# EAGLE library part DS3231 (library nixie_tube)
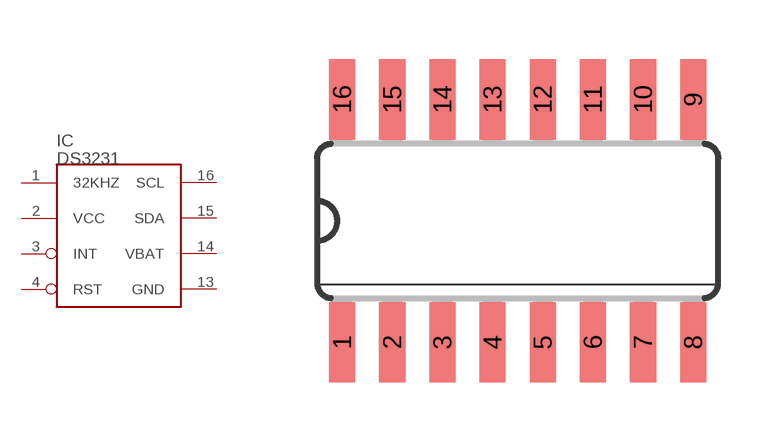
[diagram p8: symbol with the pads of SO16; footprint SO16]

Designator prefix IC

## DS3231  [SO16]
1  32KHZ  out
2  VCC  in
3  INT
4  RST
13  GND
14  VBAT
15  SDA
16  SCL

## Footprint SO16 (pad centres in mm)
smd 0.66 x 2.032: 1 -4.445,-3.073; 2 -3.175,-3.073; 3 -1.905,-3.073; 4 -0.635,-3.073; 5 0.635,-3.073; 6 1.905,-3.073; 7 3.175,-3.073; 8 4.445,-3.073; 9 4.445,3.073; 10 3.175,3.073; 11 1.905,3.073; 12 0.635,3.073; 13 -0.635,3.073; 14 -1.905,3.073; 15 -3.175,3.073; 16 -4.445,3.073